# Altium footprint library INF-PG-TSDSON-8-1_V.PcbLib: 1 footprints
Each footprint in its own frame and in the unit in brackets; x right, y up, seen from the top. Pads: shape width x height; smd on the part's side, far side on the other; paste and mask are expansions set on the pad; w line width, h text height; cw(c..) or ccw(c..) is an arc to the next point about the centre after c.
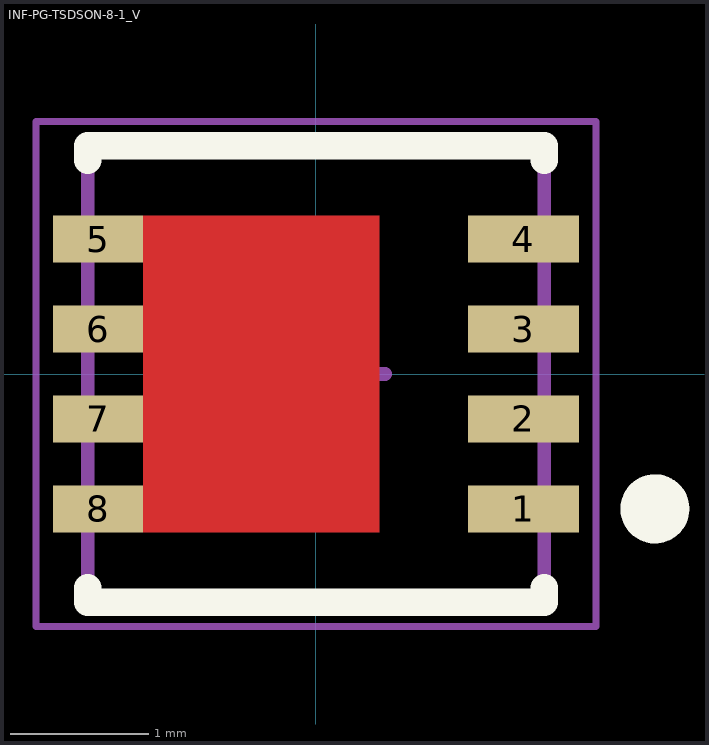
[diagram p0: the footprint, top view; thin cyan lines are the x and y axes]

## INF-PG-TSDSON-8-1_V [mm] "TSDSON, 8-Leads, Body 3.3x3.3mm, Pitch 0.65mm"
height 1.1
pads (8):
  rect 0.8x0.34 smd: 1(1.5,-0.975) 2(1.5,-0.325) 3(1.5,0.325) 4(1.5,0.975)
  rect 0.65x0.34 smd: 5(-1.575,0.975) 6(-1.575,0.325) 7(-1.575,-0.325) 8(-1.575,-0.975)
Top Layer:
  rectangle: -1.25,-1.145 0.46,1.145
Top Overlay:
  circle w0.25: c2.45,-0.975 r0.125
  lines w0.2: -1.65,-1.545 -1.65,-1.65 1.65,-1.65 1.65,-1.545 ; -1.65,1.545 -1.65,1.65 1.65,1.65 1.65,1.545
Mechanical 13:
  lines w0.1: -1.65,-1.65 -1.65,1.65 1.65,1.65 1.65,-1.65 -1.65,-1.65
Mechanical 15:
  lines w0.05: -2.025,-1.825 2.025,-1.825 2.025,1.825 -2.025,1.825 -2.025,-1.825
  lines w0.1: -0.5,0 0.5,0 ; 0,-0.5 0,0.5
3D body: height 1.1, standoff 0, extent -1.65,-1.65 1.65,1.65